# Altium footprint library K06MC07B.PcbLib: 1 footprints
Each footprint in its own frame and in the unit in brackets; x right, y up, seen from the top. Pads: shape width x height; smd on the part's side, far side on the other; paste and mask are expansions set on the pad; w line width, h text height; cw(c..) or ccw(c..) is an arc to the next point about the centre after c.
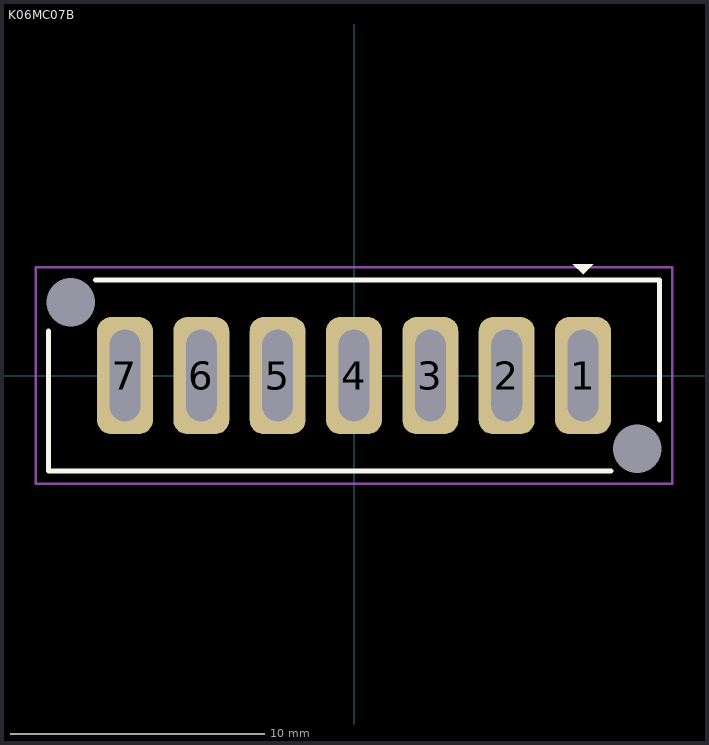
[diagram p0: the footprint, top view; thin cyan lines are the x and y axes]

## K06MC07B [mm]
pads (9):
  round 0 hole 1.9 unplated: 0(-11.125,2.875) 0(11.125,-2.875)
  rrect50% 2.2x4.6 hole 1.2 slot 3.6 at 90 deg: 1(9,0) 2(6,0) 3(3,0) 4(0,0) 5(-3,0) 6(-6,0) 7(-9,0)
Top Overlay:
  region: 8.6,4.375 9.4,4.375 9,3.975
  lines w0.2: -12,1.75 -12,-3.75 10.1,-3.75 ; -10.15,3.75 12,3.75 12,-1.75
Top Courtyard:
  lines w0.1: -12.5,-4.25 -12.5,4.25 12.5,4.25 12.5,-4.25 -12,-4.25 -12.5,-4.25
3D body "DS-K06MC07B-R18H.stp": height 17.41, standoff -2.39, extent -12,-3.75 12,3.75